# Altium schematic symbol library Devices.SchLib: 12 symbols
Pins are listed as number, name and electrical type; pins without a type are passive.

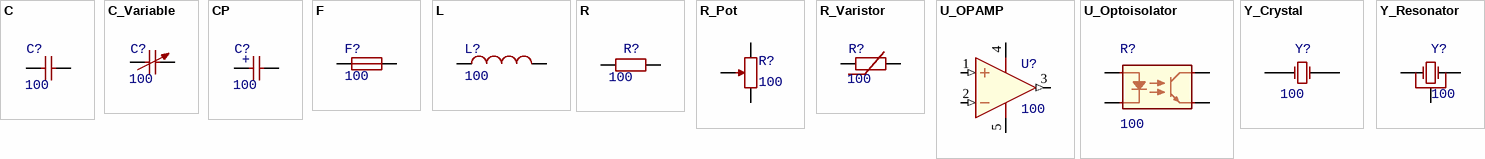
[diagram p0: symbols C to Y_Resonator]

## C
designator C?, comment 100
Capasitor; Value: 100; Manufacture: *; PartNo: *; Package: =Footprint; HelpURL: *
pins: 1, 2

## C_Variable
designator C?, comment 100
Capasitor; Value: 100; Manufacture: *; PartNo: *; Package: =Footprint; HelpURL: *
pins: 1, 2

## CP
designator C?, comment 100
Capasitor; Value: 100; Manufacture: *; PartNo: *; Package: =Footprint; HelpURL: *
pins: 1, 2
text: +

## F
designator F?, comment 100
Fuse; Value: 100; Manufacture: *; PartNo: *; Package: =Footprint; HelpURL: *
pins: 1, 2

## L
designator L?, comment 100
Inductor; Value: 100; Manufacture: *; PartNo: *; Package: =Footprint; HelpURL: *
pins: 1, 2

## R
designator R?, comment 100
Resistor; Value: 100; Manufacture: *; PartNo: *; Package: =Footprint; HelpURL: *
pins: 1, 2

## R_Pot
designator R?, comment 100
Potentiometer; Value: 100; Manufacture: *; PartNo: *; Package: =Footprint; HelpURL: *
pins: 1, 2, 3

## R_Varistor
designator R?, comment 100
Varistor; Value: 100; Manufacture: *; PartNo: *; Package: =Footprint; HelpURL: *
pins: 1, 2

## U_OPAMP
designator U?, comment 100
Operation Amplifer; Value: 100; Manufacture: *; PartNo: *; Package: =Footprint; HelpURL: *
pins: 1 IN+ (in), 2 IN- (in), 3 OUT (out), 4 V+ (power), 5 V- (power)

## U_Optoisolator
designator R?, comment 100
Optoisolator; Value: 100; Manufacture: *; PartNo: *; Package: =Footprint; HelpURL: *
pins: 1 A "Anode", 2 K "Cathode", 3 E "Emitter", 4 C "Collector"

## Y_Crystal
designator Y?, comment 100
Crystal; Value: 100; Manufacture: *; PartNo: *; Package: =Footprint; HelpURL: *
pins: 1 OSC1, 2 OSC2

## Y_Resonator
designator Y?, comment 100
Resonator; Value: 100; Manufacture: *; PartNo: *; Package: =Footprint; HelpURL: *
pins: 1 OSC1, 2 OSC2, 3 OSC3